# Altium footprint library EBYTE.PcbLib: 2 footprints
Each footprint in its own frame and in the unit in brackets; x right, y up, seen from the top. Pads: shape width x height; smd on the part's side, far side on the other; paste and mask are expansions set on the pad; w line width, h text height; cw(c..) or ccw(c..) is an arc to the next point about the centre after c.
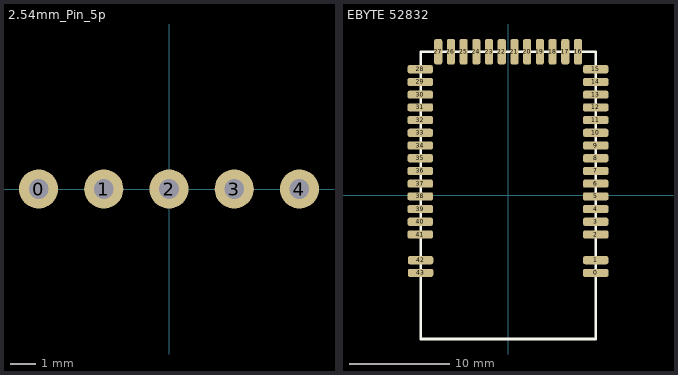
[diagram p0: the footprints below, top view; thin cyan lines are the x and y axes]

## 2.54mm_Pin_5p [mil]
height 1
pads (5):
  round 60 hole 30: 0(-200,0) 1(-100,0) 2(0,0) 3(100,0) 4(200,0)

## EBYTE 52832 [mil]
height 98
pads (44):
  rrect50% 100x32 all layers, no hole: 0(345,-305) 1(345,-255) 2(345,-154) 3(345,-104) 4(345,-54) 5(345,-4) 6(345,46) 7(345,96) 8(345,146) 9(345,196) 10(345,246) 11(345,296) 12(345,346) 13(345,396) 14(345,446) 15(345,496) 28(-345,496) 29(-345,446) 30(-345,396) 31(-345,346) 32(-345,296) 33(-345,246) 34(-345,196) 35(-345,146) 36(-345,96) 37(-345,46) 38(-345,-4) 39(-345,-54) 40(-345,-104) 41(-345,-154) 42(-344,-255) 43(-344,-305)
  rrect50% 32x100 all layers, no hole: 16(275.4,565) 17(225.4,565) 18(175.4,565) 19(125.4,565) 20(75.4,565) 21(25.4,565) 22(-24.6,565) 23(-74.6,565) 24(-124.6,565) 25(-174.6,565) 26(-224.6,565) 27(-274.6,565)
Top Overlay:
  lines w10: -344,-565 345,-565 345,565 -344,565 -344,-65 -344,-565